# EAGLE library part LM3485 (library 1)
LM3485 Hysteretic PFET Buck Controller
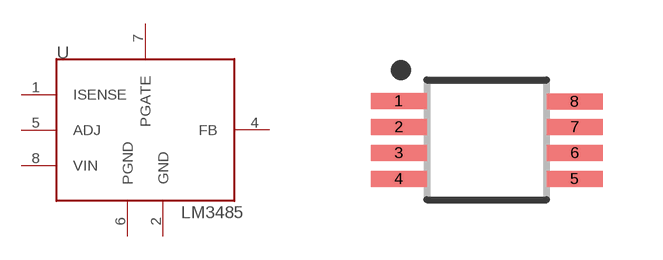
[diagram p59: symbol with the pads of MSOP-8_(MO-187-AA); footprint MSOP-8_(MO-187-AA)]

Designator prefix U

## LM3485MM  [MSOP-8_(MO-187-AA)]
1  ISENSE
2  GND
4  FB
5  ADJ
6  PGND
7  PGATE
8  VIN

## Footprint MSOP-8_(MO-187-AA) (pad centres in mm)
smd 1.4 x 0.4: 1 -2.2,0.975; 2 -2.2,0.325; 3 -2.2,-0.325; 4 -2.2,-0.975; 5 2.2,-0.975; 6 2.2,-0.325; 7 2.2,0.325; 8 2.2,0.959